# Altium schematic symbol library my_sch_lib.SchLib: 23 symbols
Pins are listed as number, name and electrical type; pins without a type are passive.

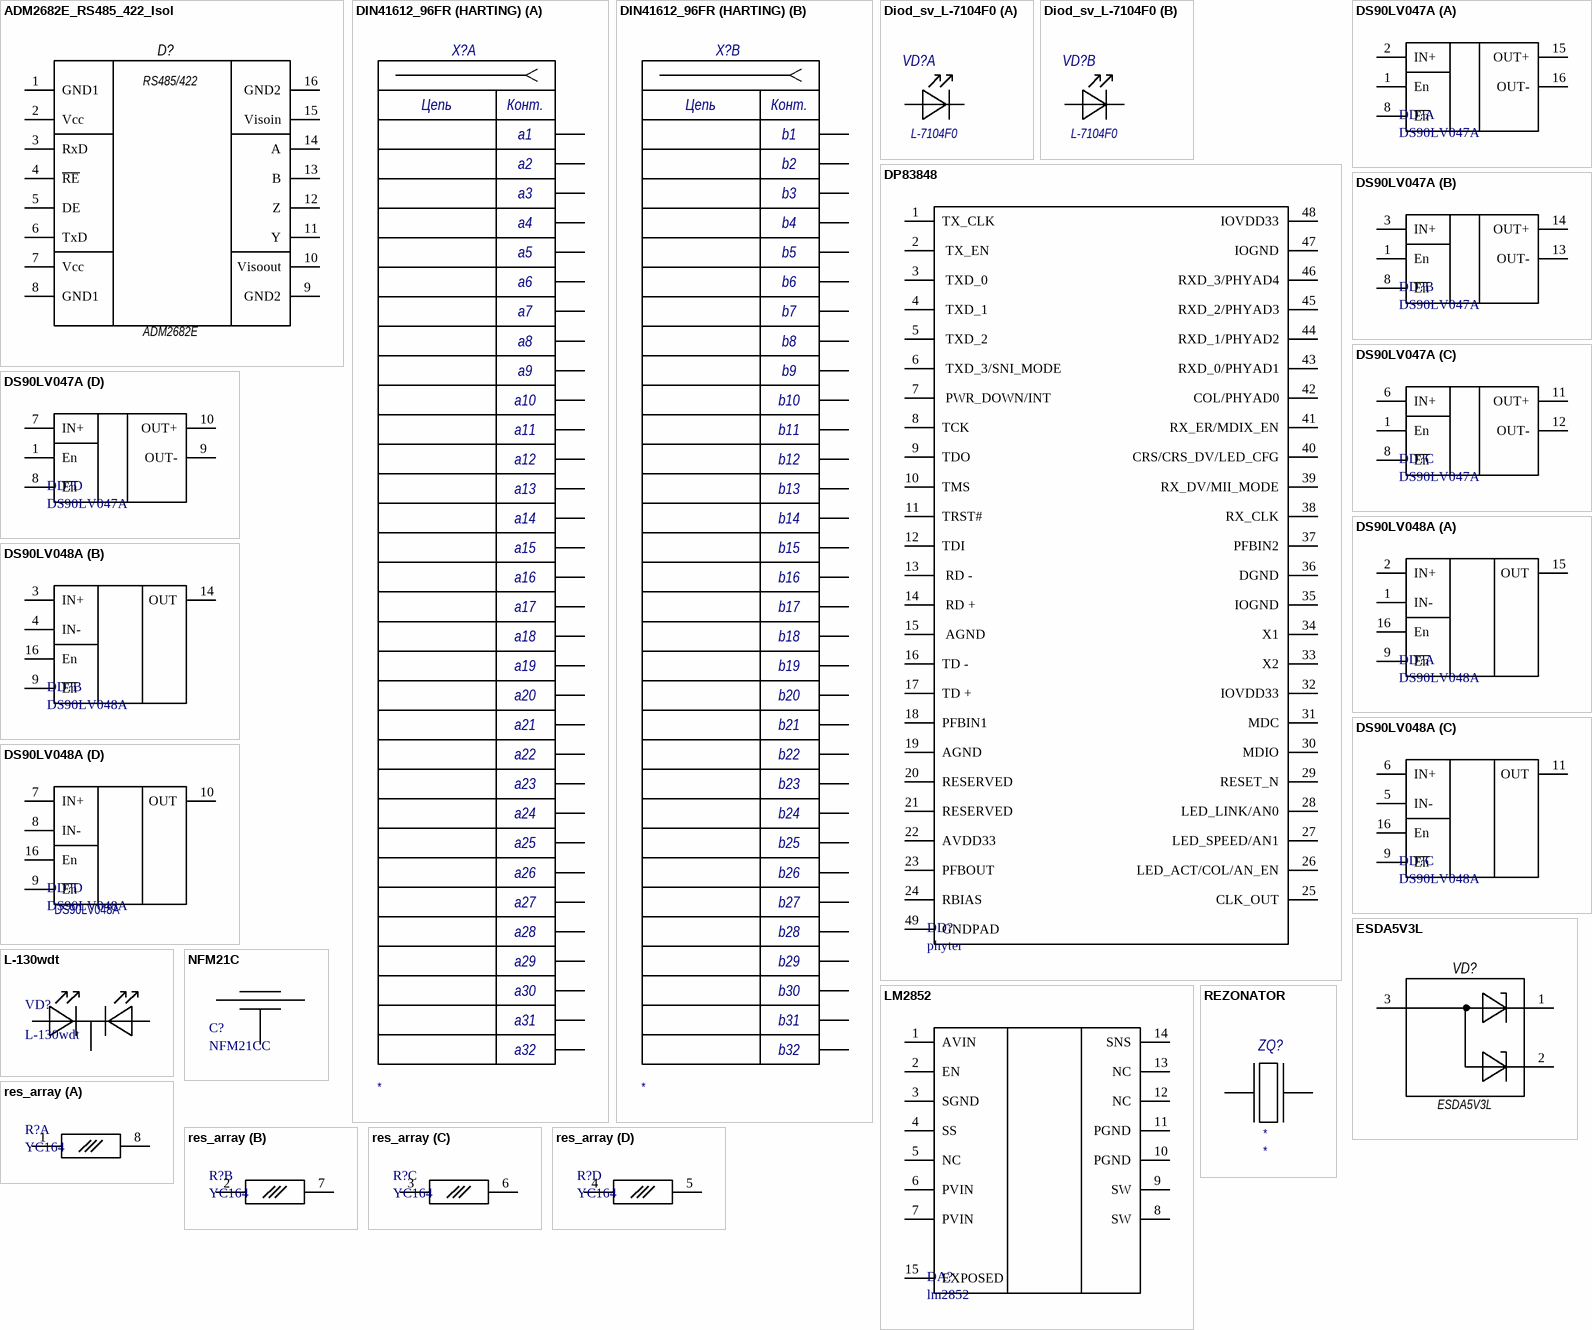
[diagram p0: symbols ADM2682E_RS485_422_Isol to REZONATOR]

## ADM2682E_RS485_422_Isol
designator D?  Type: ADM2682E  (hidden comment: ADM2682E_RS485_422_Isol)
footprint SOIC_16IC_ (D?)
3D model Model Name (Model Description)
pins: 1 GND1, 2 Vcc, 3 RxD, 4 ~{RE}, 5 DE, 6 TxD, 7 Vcc, 8 GND1, 9 GND2, 10 Visoout, 11 Y, 12 Z, 13 B, 14 A, 15 Visoin, 16 GND2
text: RS485/422

## DIN41612_96FR (HARTING)
designator X?
Type: *
footprint DIN41612 3x32 64FR (96-Pin DIN Standard Right Angle Male PCB Mount Connector Розетка)
part A pins: a1, a2, a3, a4, a5, a6, a7, a8, a9, a10, a11, a12, a13, a14, a15, a16, a17, a18, a19, a20, a21, a22, a23, a24, a25, a26, a27, a28, a29, a30, a31, a32
part B pins: b1, b2, b3, b4, b5, b6, b7, b8, b9, b10, b11, b12, b13, b14, b15, b16, b17, b18, b19, b20, b21, b22, b23, b24, b25, b26, b27, b28, b29, b30, b31, b32
part A text: Цепь; Конт.
part B text: Цепь; Конт.

## Diod_sv_L-7104F0
designator VD?  Type: L-7104F0  (hidden comment: *)
footprint L-7104_
part A pins: 1 A1, 2 K1
part B pins: 3 A2, 4 K2

## DP83848
designator DD?, comment phyter
footprint HVQFP48
pins: 1 TX_CLK, 2  TX_EN , 3  TXD_0 , 4  TXD_1 , 5  TXD_2 , 6  TXD_3/SNI_MODE , 7  PWR_DOWN/INT , 8 TCK , 9 TDO , 10 TMS , 11 TRST# , 12 TDI , 13  RD - , 14  RD + , 15  AGND , 16 TD - , 17 TD + , 18 PFBIN1 , 19 AGND, 20 RESERVED , 21 RESERVED , 22 AVDD33 , 23 PFBOUT , 24 RBIAS , 25 CLK_OUT, 26 LED_ACT/COL/AN_EN, 27 LED_SPEED/AN1, 28  LED_LINK/AN0, 29 RESET_N, 30 MDIO, 31 MDC, 32  IOVDD33, 33  X2, 34 X1, 35  IOGND, 36  DGND, 37 PFBIN2, 38  RX_CLK, 39 RX_DV/MII_MODE, 40 CRS/CRS_DV/LED_CFG, 41 RX_ER/MDIX_EN, 42 COL/PHYAD0, 43 RXD_0/PHYAD1, 44  RXD_1/PHYAD2, 45 RXD_2/PHYAD3, 46 RXD_3/PHYAD4, 47  IOGND, 48 IOVDD33, 49 GNDPAD

## DS90LV047A
designator DD?
footprint TSSOP16
part A pins: 1 En, 2 IN+, 4 VCC (power) hidden to VCC, 5 GND (power) hidden to GND, 8 ~{En}, 15 OUT+, 16 OUT-
part B pins: 1 En, 3 IN+, 4 VCC (power) hidden to VCC, 5 GND (power) hidden to GND, 8 ~{En}, 13 OUT-, 14 OUT+
part C pins: 1 En, 4 VCC (power) hidden to VCC, 5 GND (power) hidden to GND, 6 IN+, 8 ~{En}, 11 OUT+, 12 OUT-
part D pins: 1 En, 4 VCC (power) hidden to VCC, 5 GND (power) hidden to GND, 7 IN+, 8 ~{En}, 9 OUT-, 10 OUT+

## DS90LV048A
designator DD?
footprint TSSOP16
part A pins: 1 IN-, 2 IN+, 9 ~{En}, 12 GND (power) hidden to GND, 13 VCC (power) hidden to VCC, 15 OUT, 16 En
part B pins: 3 IN+, 4 IN-, 9 ~{En}, 12 GND (power) hidden to GND, 13 VCC (power) hidden to VCC, 14 OUT, 16 En
part C pins: 5 IN-, 6 IN+, 9 ~{En}, 11 OUT, 12 GND (power) hidden to GND, 13 VCC (power) hidden to VCC, 16 En
part D pins: 7 IN+, 8 IN-, 9 ~{En}, 10 OUT, 12 GND (power) hidden to GND, 13 VCC (power) hidden to VCC, 16 En

## ESDA5V3L
designator VD?
Type: ESDA5V3L
footprint SOT-23
pins: 1, 2, 3

## L-130wdt
designator VD?
footprint L-130WDT
pins: 1 A1, 2 K, 3 A2

## LM2852
designator DA?, comment lm2852
footprint HTSSOP14N (TSSOP, 14-Leads, Body 5,00x4,40mm, Pitch 0,65mm, IPC Medium Density)
pins: 1 AVIN, 2 EN, 3 SGND, 4 SS, 5 NC, 6 PVIN, 7 PVIN, 8 SW, 9 SW, 10 PGND, 11 PGND, 12 NC, 13 NC, 14 SNS, 15 EXPOSED

## NFM21C
designator C?, comment NFM21CC
NFM21CC102R1H3
footprint NFM21C
pins: 1 in, 2 out, 3 Gnd

## res_array
designator R?, comment YC164
footprint YC164
part A pins: 1, 8
part B pins: 2, 7
part C pins: 3, 6
part D pins: 4, 5

## REZONATOR
designator ZQ?, comment ESX-53-DU  (value not drawn)
Crystal; Type: *; Value: *
footprint ECX-53B-DU (SMX crystals)
pins: 1, 2 hidden to GND, 3, 4 hidden to GND

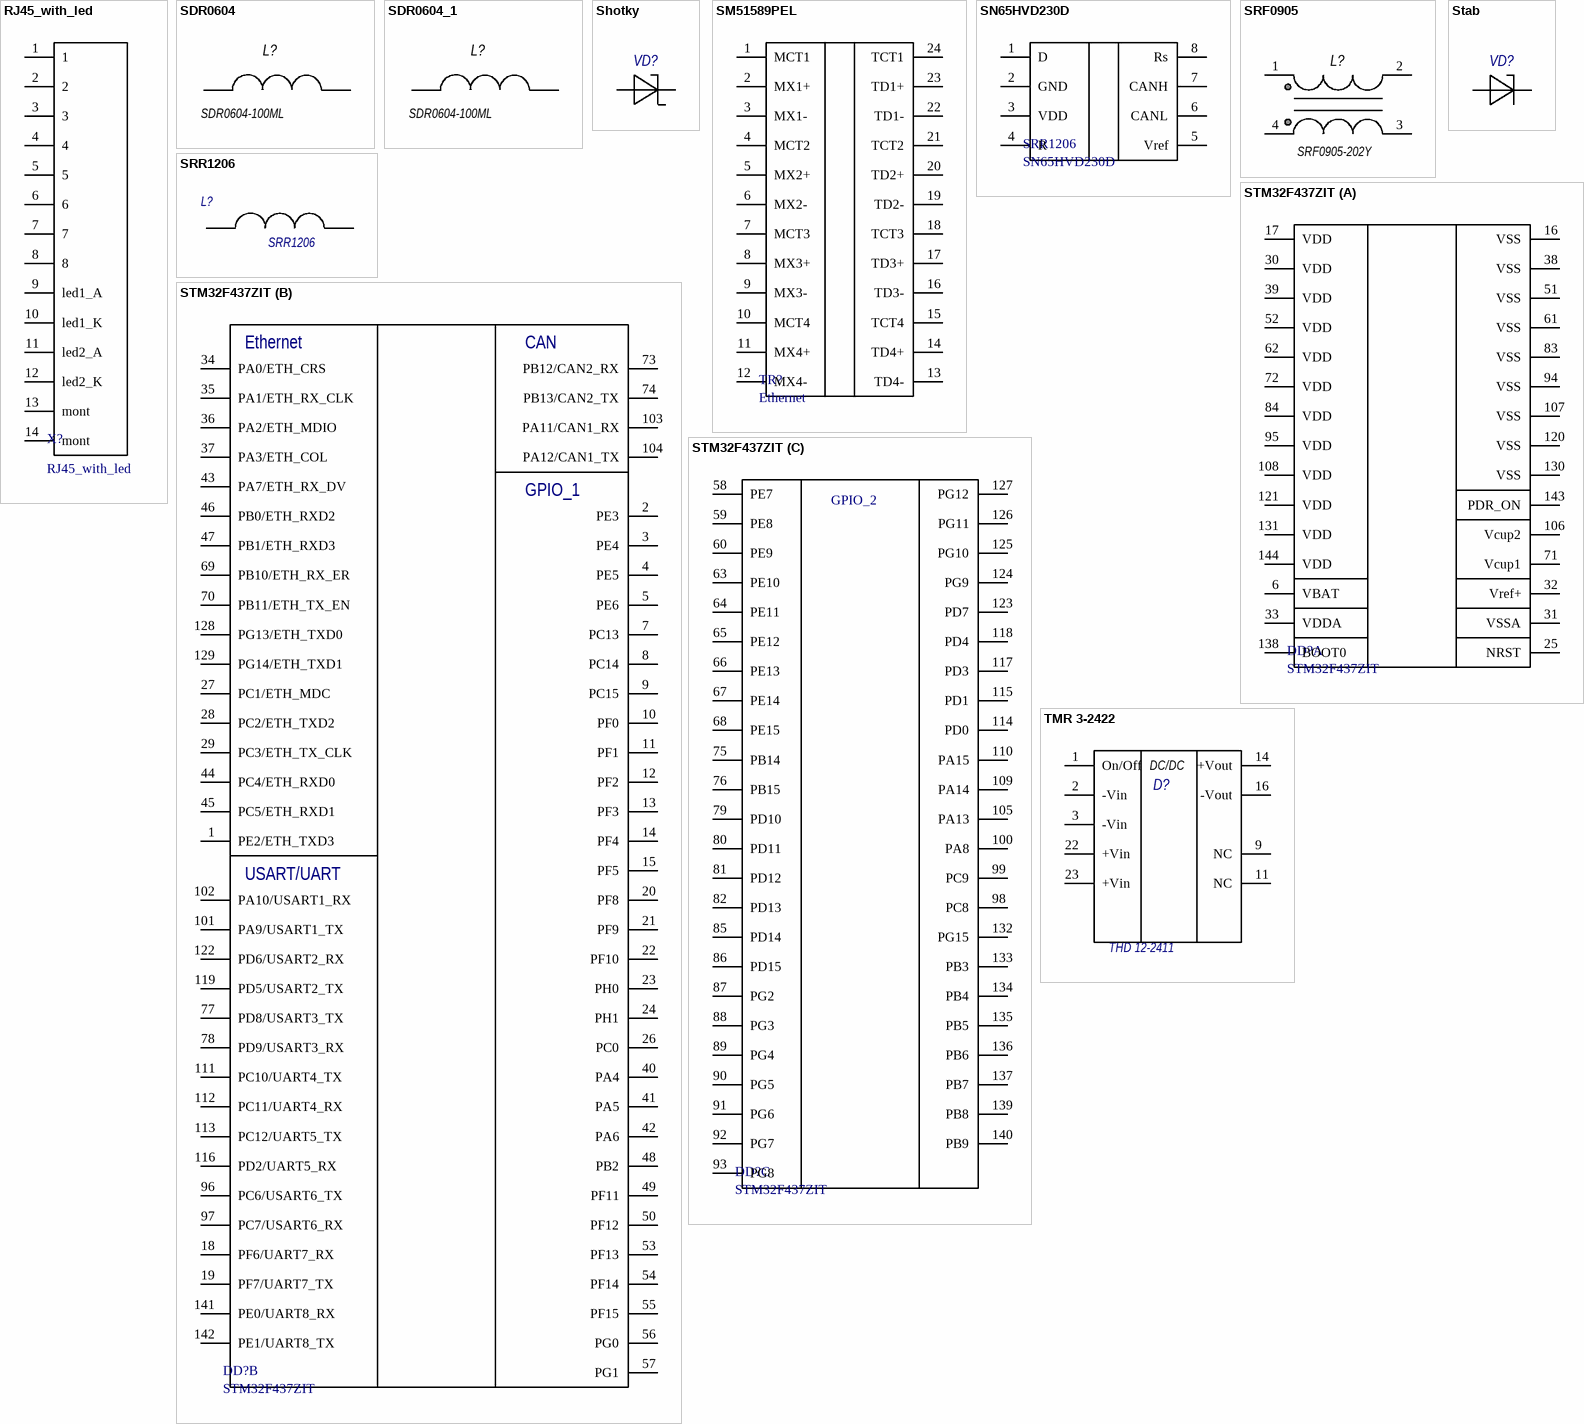
[diagram p1: symbols RJ45_with_led to TMR 3-2422]

## RJ45_with_led
designator X?
footprint RG45_w_l
pins: 1, 2, 3, 4, 5, 6, 7, 8, 9 led1_A, 10 led1_K, 11 led2_A, 12 led2_K, 13 mont, 14 mont

## SDR0604
designator L?  value SDR0604-100ML  (hidden comment: *)
SDR0604
footprint SDR0604
pins: 1, 2

## SDR0604_1
designator L?  value SDR0604-100ML  (hidden comment: *)
SDR0604
footprint SDR0604_
pins: 1, 2

## Shotky
designator VD?  (value not drawn)
footprint SMC
pins: A, K

## SM51589PEL
designator TR?, comment Ethernet
footprint sm51589pel
pins: 1 MCT1, 2 MX1+, 3 MX1-, 4 MCT2, 5 MX2+, 6 MX2-, 7 MCT3, 8 MX3+, 9 MX3-, 10 MCT4, 11 MX4+, 12 MX4-, 13 TD4-, 14 TD4+, 15 TCT4, 16 TD3-, 17 TD3+, 18 TCT3, 19 TD2-, 20 TD2+, 21 TCT2, 22 TD1-, 23 TD1+, 24 TCT1

## SN65HVD230D
designator SRR1206
SN65HVD230D CAN driver
footprint SO-8_
pins: 1 D, 2 GND, 3 VDD, 4 R, 5 Vref, 6 CANL, 7 CANH, 8 Rs

## SRF0905
designator L?  value SRF0905-202Y  (hidden comment: *)
footprint SRF0905 (Inductor, 4-Leads)
pins: 1, 2, 3, 4

## SRR1206
designator L?
Value: *; Type: SRR1206
footprint SRR1206
pins: 1, 2

## Stab
designator VD?  (value not drawn)
footprint SMC
pins: A, K

## STM32F437ZIT
designator DD?
footprint LQFP144
part A pins: 6 VBAT, 16 VSS, 17 VDD, 25 NRST, 30 VDD, 31 VSSA, 32 Vref+, 33 VDDA, 38 VSS, 39 VDD, 51 VSS, 52 VDD, 61 VSS, 62 VDD, 71 Vcup1, 72 VDD, 83 VSS, 84 VDD, 94 VSS, 95 VDD, 106 Vcup2, 107 VSS, 108 VDD, 120 VSS, 121 VDD, 130 VSS, 131 VDD, 138 BOOT0, 143 PDR_ON, 144 VDD
part B pins: 1 PE2/ETH_TXD3 "ETH_TXD3", 2 PE3, 3 PE4, 4 PE5, 5 PE6, 7 PC13, 8 PC14, 9 PC15, 10 PF0, 11 PF1, 12 PF2, 13 PF3, 14 PF4, 15 PF5, 18 PF6/UART7_RX, 19 PF7/UART7_TX, 20 PF8, 21 PF9, 22 PF10, 23 PH0, 24 PH1, 26 PC0, 27 PC1/ETH_MDC "ETH_MDC", 28 PC2/ETH_TXD2 "ETH_TXD2", 29 PC3/ETH_TX_CLK "ETH_TX_CLK", 34 PA0/ETH_CRS "ETH_CRS", 35 PA1/ETH_RX_CLK "ETH_RX_CLK", 36 PA2/ETH_MDIO "ETH_MDIO", 37 PA3/ETH_COL "ETH_COL", 40 PA4, 41 PA5, 42 PA6, 43 PA7/ETH_RX_DV "ETH_RX_DV", 44 PC4/ETH_RXD0 "ETH_RXD0", 45 PC5/ETH_RXD1 "ETH_RXD1", 46 PB0/ETH_RXD2 "ETH_RXD2", 47 PB1/ETH_RXD3 "ETH_RXD3", 48 PB2, 49 PF11, 50 PF12, 53 PF13, 54 PF14, 55 PF15, 56 PG0, 57 PG1, 69 PB10/ETH_RX_ER "ETH_RX_ER", 70 PB11/ETH_TX_EN "ETH_TX_EN", 73 PB12/CAN2_RX, 74 PB13/CAN2_TX, 77 PD8/USART3_TX, 78 PD9/USART3_RX, 96 PC6/USART6_TX, 97 PC7/USART6_RX, 101 PA9/USART1_TX, 102 PA10/USART1_RX, 103 PA11/CAN1_RX, 104 PA12/CAN1_TX, 111 PC10/UART4_TX, 112 PC11/UART4_RX, 113 PC12/UART5_TX, 116 PD2/UART5_RX, 119 PD5/USART2_TX, 122 PD6/USART2_RX, 128 PG13/ETH_TXD0 "ETH_TXD0", 129 PG14/ETH_TXD1 "ETH_TXD1", 141 PE0/UART8_RX, 142 PE1/UART8_TX
part C pins: 58 PE7, 59 PE8, 60 PE9, 63 PE10, 64 PE11, 65 PE12, 66 PE13, 67 PE14, 68 PE15, 75 PB14, 76 PB15, 79 PD10, 80 PD11, 81 PD12, 82 PD13, 85 PD14, 86 PD15, 87 PG2, 88 PG3, 89 PG4, 90 PG5, 91 PG6, 92 PG7, 93 PG8, 98 PC8, 99 PC9, 100 PA8, 105 PA13, 109 PA14, 110 PA15, 114 PD0, 115 PD1, 117 PD3, 118 PD4, 123 PD7, 124 PG9, 125 PG10, 126 PG11, 127 PG12, 132 PG15, 133 PB3, 134 PB4, 135 PB5, 136 PB6, 137 PB7, 139 PB8, 140 PB9
part B text: Ethernet; CAN; GPIO_1; USART/UART
part C text: GPIO_2

## TMR 3-2422
designator D?  Type: THD 12-2411  (hidden comment: *)
footprint THD_12-2411
pins: 1 On/Off (power), 2 -Vin (power), 3 -Vin (power), 9 NC (power), 11 NC (power), 14 +Vout (power), 16 -Vout (power), 22 +Vin (power), 23 +Vin (power)
text: DC/DC